# EAGLE library part SAMACSYS_PARTS_1_TP4057-42-SOT26-R (library biblioteka)
PMIC - Battery Management SOT-23-6 RoHS Source: Datasheet <https://datasheet.lcsc.com/szlcsc/Nanjing-Extension-Microelectronics-TP4057_C12044.pdf>
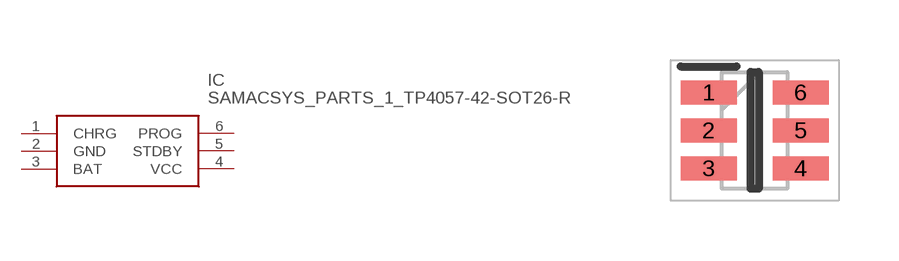
[diagram p1: symbol with the pads of SAMACSYS_PARTS_1_SOT95P280X125-6N; footprint SAMACSYS_PARTS_1_SOT95P280X125-6N]

Designator prefix IC

## SAMACSYS_PARTS_1_TP4057-42-SOT26-R (DESCRIPTION: PMIC - Battery Management SOT-23-6 RoHS; HEIGHT: 1.25mm; MANUFACTURER_NAME: Nanjing Extension Microelectronics; MANUFACTURER_PART_NUMBER: TP4057-42-SOT26-R)  [SAMACSYS_PARTS_1_SOT95P280X125-6N]
1  CHRG
2  GND
3  BAT
4  VCC
5  STDBY
6  PROG

## Footprint SAMACSYS_PARTS_1_SOT95P280X125-6N (pad centres in mm)
SOT-23-5
smd 1.4 x 0.6: 1 -1.15,0.95; 2 -1.15,0; 3 -1.15,-0.95; 4 1.15,-0.95; 5 1.15,0; 6 1.15,0.95